# EAGLE library part 2X3_SMD (library myFab)
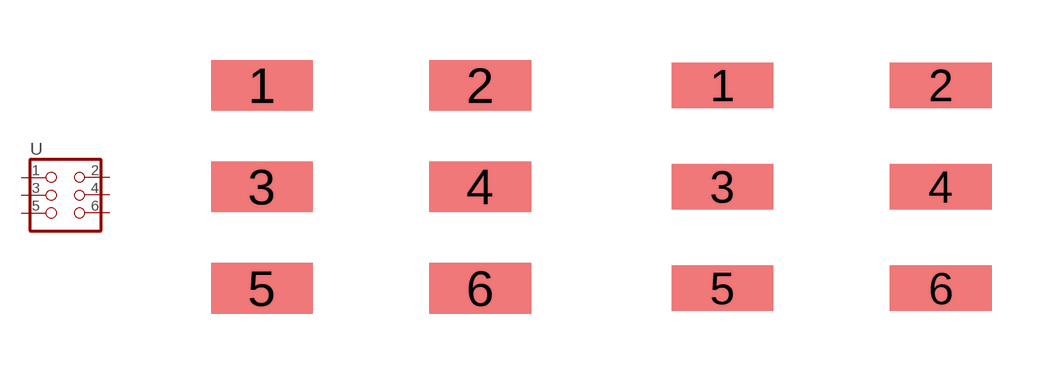
[diagram p18: symbol with the pads of 2X3_SMD; footprints 2X3_SMD, 2X3_SMD_THINERPADS]

Designator prefix -

## 2X3_SMDSTANDARD  [2X3_SMD]
1  1  pas
2  2  pas
3  3  pas
4  4  pas
5  5  pas
6  6  pas

## 2X3_SMDTHINNER  [2X3_SMD_THINERPADS]
Pads as for 2X3_SMD

## Footprint 2X3_SMD (pad centres in mm)
smd 2.54 x 1.27: 1 -2.731,-0.572; 2 2.731,-0.572; 3 -2.731,-3.111; 4 2.731,-3.111; 5 -2.731,-5.652; 6 2.731,-5.652

## Footprint 2X3_SMD_THINERPADS (pad centres in mm)
smd 2.54 x 1.143: 1 -2.731,-0.572; 2 2.729,-0.572; 3 -2.731,-3.111; 4 2.729,-3.111; 5 -2.731,-5.652; 6 2.729,-5.652